# EAGLE library part LTC2954-1 (library 1)
LTC2954-1 Pushbutton On/Off Controller with uP Interrupt Enable High DATASHEET <http://www.linear.com/docs/16598>
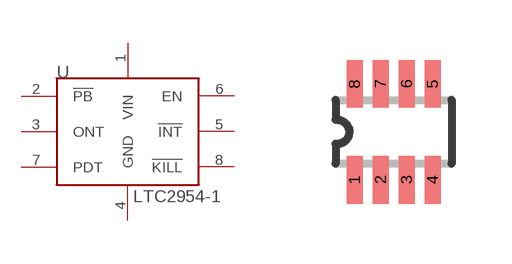
[diagram p24: symbol with the pads of TSOT23-8; footprint TSOT23-8]

Designator prefix -

## LTC2954-1CTS8  [TSOT23-8]
1  VIN
2  !PB
3  ONT
4  GND
5  !INT
6  EN
7  PDT
8  !KILL

## Footprint TSOT23-8 (pad centres in mm)
TSOT23-8 LTC DWG# 05-08-1637 Rev. A <http://www.linear.com/docs/38790>
smd 0.4 x 1.2: 1 -0.975,-1.2; 2 -0.325,-1.2; 3 0.325,-1.2; 4 0.975,-1.2; 5 0.975,1.2; 6 0.325,1.2; 7 -0.325,1.2; 8 -0.975,1.2